# Altium integrated library Analog Devices RF IF Prescalers (Microwave).IntLib: 6 symbols
Pins are listed as number, name and electrical type; pins without a type are passive.

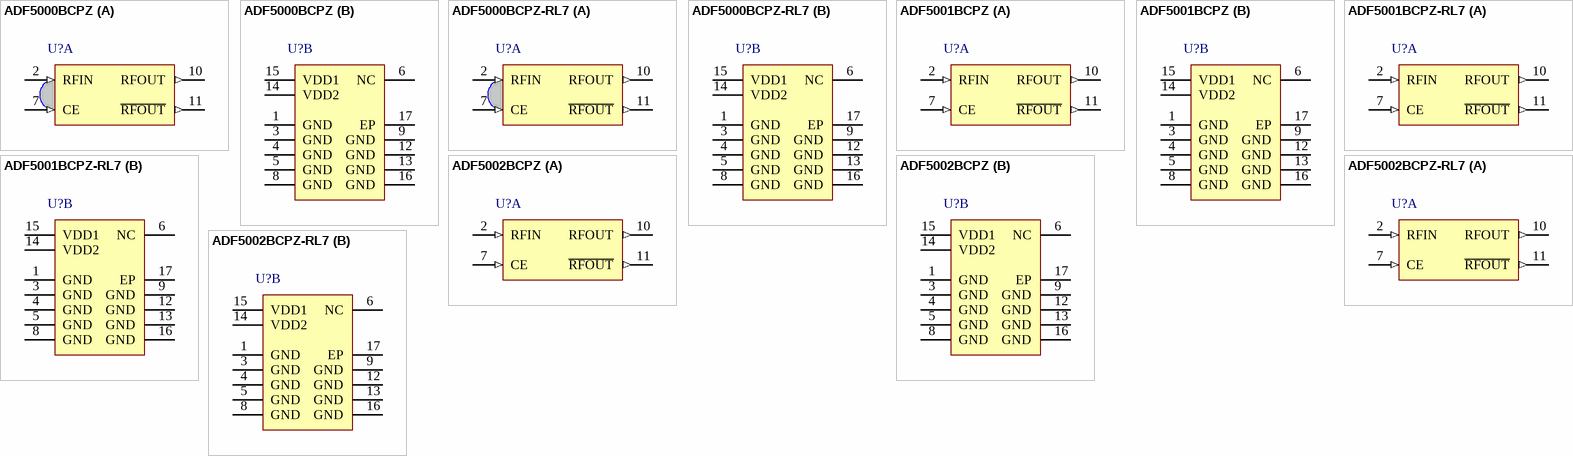
[diagram p0: symbols ADF5000BCPZ to ADF5002BCPZ-RL7]

## ADF5000BCPZ
designator U?
4 GHz to 18 GHz Divide-by-2 Prescaler, -147dBc, CP-16-18, Pb-Free, 714 Tray; Max RF Input (MHz): 18GHz; RF Divide Value: 2; Voltage Supply (V): 3.3V; Supply Current: 30mA; DatasheetVersion: Rev0; PackageVersion: 043008-A; PackageReference: CP-16-18; PackageDescription: 16-Lead Lead Frame Chip Scale Package [LFCSP_WQ]; Norm Phase Noise (dBc/Hz): -147dBc; ComponentLink1Description: Manufacturer URL; ComponentLink1URL: www.analog.com; ComponentLink2Description: Datasheet; ComponentLink2URL: http://www.analog.com/static/imported-files/data_sheets/ADF5000.pdf; ComponentLink3Description: Package Specification; ComponentLink3URL: http://www.analog.com/static/imported-files/packages/PKG_PDF/LFCSP(CP)/CP-16/CP_16_18.pdf
footprint ADI-CP-16-18_N (QFN, 16-Leads, Body 3x3mm, Pitch 0.5mm, Thermal Pad 1.6x1.6mm, IPC Medium Density)
footprint ADI-CP-16-18_L (QFN, 16-Leads, Body 3x3mm, Pitch 0.5mm, Thermal Pad 1.6x1.6mm, IPC High Density)
footprint ADI-CP-16-18_M (QFN, 16-Leads, Body 3x3mm, Pitch 0.5mm, Thermal Pad 1.6x1.6mm, IPC Low Density)
part A pins: 2 RFIN (in) "Single-Ended 50 ohm Input to the RF Prescaler. This pin is ac-coupled internally via a 3 pF capacitor.", 7 CE (in) "Chip Enable. This pin is active high. When CE is brought low, the part enters power-down mode. If this functionality is not required, the pin can be left unconnected because it is pulled up internally through a weak pull-up resistor.", 10 RFOUT (out) "Divided-Down Output of the Prescaler. This pin has an internal 100 ohm load resistor tied to VDD2 and an ac coupling capacitor of 1 pF.", 11 ~{RFOUT} (out) "Complementary Divided Down Output of the Prescaler. This pin has an internal 100 ohm load resistor tied to VDD2 and an ac coupling capacitor of 1 pF."
part B pins: 1 GND (power) "RF Ground. Tie all ground pins together.", 3 GND (power) "RF Ground. Tie all ground pins together.", 4 GND (power) "RF Ground. Tie all ground pins together.", 5 GND (power) "RF Ground. Tie all ground pins together.", 6 NC "No Connect. Do not connect to this pin.", 8 GND (power) "RF Ground. Tie all ground pins together.", 9 GND (power) "RF Ground. Tie all ground pins together.", 12 GND (power) "RF Ground. Tie all ground pins together.", 13 GND (power) "RF Ground. Tie all ground pins together.", 14 VDD2 (power) "Voltage Supply for the Output Stage. Decouple this pin to ground with a 0.1 uF capacitor in parallel with a 10 pF capacitor. VDD2 can be tied directly to VDD1.", 15 VDD1 (power) "Voltage Supply for the Input Stage and Divider Block. Decouple this pin to ground with a 0.1 uF capacitor in parallel with a 10 pF capacitor.", 16 GND (power) "RF Ground. Tie all ground pins together.", 17 EP (power) "The LFCSP has an exposed paddle that must be connected to GND."

## ADF5000BCPZ-RL7
designator U?
4 GHz to 18 GHz Divide-by-2 Prescaler, -147dBc, CP-16-18, Pb-Free, 1500 Reel; Max RF Input (MHz): 18GHz; RF Divide Value: 2; Voltage Supply (V): 3.3V; Supply Current: 30mA; DatasheetVersion: Rev0; PackageVersion: 043008-A; PackageReference: CP-16-18; PackageDescription: 16-Lead Lead Frame Chip Scale Package [LFCSP_WQ]; Norm Phase Noise (dBc/Hz): -147dBc; ComponentLink1Description: Manufacturer URL; ComponentLink1URL: www.analog.com; ComponentLink2Description: Datasheet; ComponentLink2URL: http://www.analog.com/static/imported-files/data_sheets/ADF5000.pdf; ComponentLink3Description: Package Specification; ComponentLink3URL: http://www.analog.com/static/imported-files/packages/PKG_PDF/LFCSP(CP)/CP-16/CP_16_18.pdf
footprint ADI-CP-16-18_N (QFN, 16-Leads, Body 3x3mm, Pitch 0.5mm, Thermal Pad 1.6x1.6mm, IPC Medium Density)
footprint ADI-CP-16-18_L (QFN, 16-Leads, Body 3x3mm, Pitch 0.5mm, Thermal Pad 1.6x1.6mm, IPC High Density)
footprint ADI-CP-16-18_M (QFN, 16-Leads, Body 3x3mm, Pitch 0.5mm, Thermal Pad 1.6x1.6mm, IPC Low Density)
part A pins: 2 RFIN (in) "Single-Ended 50 ohm Input to the RF Prescaler. This pin is ac-coupled internally via a 3 pF capacitor.", 7 CE (in) "Chip Enable. This pin is active high. When CE is brought low, the part enters power-down mode. If this functionality is not required, the pin can be left unconnected because it is pulled up internally through a weak pull-up resistor.", 10 RFOUT (out) "Divided-Down Output of the Prescaler. This pin has an internal 100 ohm load resistor tied to VDD2 and an ac coupling capacitor of 1 pF.", 11 ~{RFOUT} (out) "Complementary Divided Down Output of the Prescaler. This pin has an internal 100 ohm load resistor tied to VDD2 and an ac coupling capacitor of 1 pF."
part B pins: 1 GND (power) "RF Ground. Tie all ground pins together.", 3 GND (power) "RF Ground. Tie all ground pins together.", 4 GND (power) "RF Ground. Tie all ground pins together.", 5 GND (power) "RF Ground. Tie all ground pins together.", 6 NC "No Connect. Do not connect to this pin.", 8 GND (power) "RF Ground. Tie all ground pins together.", 9 GND (power) "RF Ground. Tie all ground pins together.", 12 GND (power) "RF Ground. Tie all ground pins together.", 13 GND (power) "RF Ground. Tie all ground pins together.", 14 VDD2 (power) "Voltage Supply for the Output Stage. Decouple this pin to ground with a 0.1 uF capacitor in parallel with a 10 pF capacitor. VDD2 can be tied directly to VDD1.", 15 VDD1 (power) "Voltage Supply for the Input Stage and Divider Block. Decouple this pin to ground with a 0.1 uF capacitor in parallel with a 10 pF capacitor.", 16 GND (power) "RF Ground. Tie all ground pins together.", 17 EP (power) "The LFCSP has an exposed paddle that must be connected to GND."

## ADF5001BCPZ
designator U?
4 GHz to 18 GHz Divide-by-4 Prescaler, -150dBc, CP-16-18, Pb-Free, 714 Tray; Max RF Input (MHz): 18GHz; RF Divide Value: 4; Voltage Supply (V): 3.3V; Supply Current: 30mA; DatasheetVersion: RevA; PackageVersion: 043008-A; PackageReference: CP-16-18; PackageDescription: 16-Lead Lead Frame Chip Scale Package [LFCSP_WQ]; Norm Phase Noise (dBc/Hz): -150dBc; ComponentLink1Description: Manufacturer URL; ComponentLink1URL: www.analog.com; ComponentLink2Description: Datasheet; ComponentLink2URL: http://www.analog.com/static/imported-files/data_sheets/ADF5001.pdf; ComponentLink3Description: Package Specification; ComponentLink3URL: http://www.analog.com/static/imported-files/packages/PKG_PDF/LFCSP(CP)/CP-16/CP_16_18.pdf
footprint ADI-CP-16-18_N (QFN, 16-Leads, Body 3x3mm, Pitch 0.5mm, Thermal Pad 1.6x1.6mm, IPC Medium Density)
footprint ADI-CP-16-18_L (QFN, 16-Leads, Body 3x3mm, Pitch 0.5mm, Thermal Pad 1.6x1.6mm, IPC High Density)
footprint ADI-CP-16-18_M (QFN, 16-Leads, Body 3x3mm, Pitch 0.5mm, Thermal Pad 1.6x1.6mm, IPC Low Density)
part A pins: 2 RFIN (in) "Single-Ended 50 ohm Input to the RF Prescaler. This pin is ac-coupled internally via a 3 pF capacitor.", 7 CE (in) "Chip Enable. This pin is active high. When CE is brought low, the part enters into power-down mode. If this functionality is not required, the pin can remain unconnected because it is pulled up internally through a weak pull-up resistor.", 10 RFOUT (out) "Divided Down Output of the Prescaler. This pin has an internal 100 ohm load resistor tied to VDD2 and an ac-coupling capacitor of 1 pF.", 11 ~{RFOUT} (out) "Complementary Divided Down Output of the Prescaler. This pin has an internal 100 ohm load resistor tied to VDD2 and an ac-coupling capacitor of 1 pF."
part B pins: 1 GND (power) "RF Ground. All ground pins should be tied together.", 3 GND (power) "RF Ground. All ground pins should be tied together.", 4 GND (power) "RF Ground. All ground pins should be tied together.", 5 GND (power) "RF Ground. All ground pins should be tied together.", 6 NC "No Connect. This pin can be left unconnected.", 8 GND (power) "RF Ground. All ground pins should be tied together.", 9 GND (power) "RF Ground. All ground pins should be tied together.", 12 GND (power) "RF Ground. All ground pins should be tied together.", 13 GND (power) "RF Ground. All ground pins should be tied together.", 14 VDD2 (power) "Voltage Supply for the Output Stage. Decouple this pin to ground with a 1 nF capacitor and tie it directly to VDD1.", 15 VDD1 (power) "Voltage Supply for the Input Stage and Divider Block. Decouple this pin to ground with a 1 nF capacitor.", 16 GND (power) "RF Ground. All ground pins should be tied together.", 17 EP (power) "The LFCSP package has an exposed paddle that must be connected to GND."

## ADF5001BCPZ-RL7
designator U?
4 GHz to 18 GHz Divide-by-4 Prescaler, -150dBc, CP-16-18, Pb-Free, 1500 Reel; Max RF Input (MHz): 18GHz; RF Divide Value: 4; Voltage Supply (V): 3.3V; Supply Current: 30mA; DatasheetVersion: RevA; PackageVersion: 043008-A; PackageReference: CP-16-18; PackageDescription: 16-Lead Lead Frame Chip Scale Package [LFCSP_WQ]; Norm Phase Noise (dBc/Hz): -150dBc; ComponentLink1Description: Manufacturer URL; ComponentLink1URL: www.analog.com; ComponentLink2Description: Datasheet; ComponentLink2URL: http://www.analog.com/static/imported-files/data_sheets/ADF5001.pdf; ComponentLink3Description: Package Specification; ComponentLink3URL: http://www.analog.com/static/imported-files/packages/PKG_PDF/LFCSP(CP)/CP-16/CP_16_18.pdf
footprint ADI-CP-16-18_N (QFN, 16-Leads, Body 3x3mm, Pitch 0.5mm, Thermal Pad 1.6x1.6mm, IPC Medium Density)
footprint ADI-CP-16-18_L (QFN, 16-Leads, Body 3x3mm, Pitch 0.5mm, Thermal Pad 1.6x1.6mm, IPC High Density)
footprint ADI-CP-16-18_M (QFN, 16-Leads, Body 3x3mm, Pitch 0.5mm, Thermal Pad 1.6x1.6mm, IPC Low Density)
part A pins: 2 RFIN (in) "Single-Ended 50 ohm Input to the RF Prescaler. This pin is ac-coupled internally via a 3 pF capacitor.", 7 CE (in) "Chip Enable. This pin is active high. When CE is brought low, the part enters into power-down mode. If this functionality is not required, the pin can remain unconnected because it is pulled up internally through a weak pull-up resistor.", 10 RFOUT (out) "Divided Down Output of the Prescaler. This pin has an internal 100 ohm load resistor tied to VDD2 and an ac-coupling capacitor of 1 pF.", 11 ~{RFOUT} (out) "Complementary Divided Down Output of the Prescaler. This pin has an internal 100 ohm load resistor tied to VDD2 and an ac-coupling capacitor of 1 pF."
part B pins: 1 GND (power) "RF Ground. All ground pins should be tied together.", 3 GND (power) "RF Ground. All ground pins should be tied together.", 4 GND (power) "RF Ground. All ground pins should be tied together.", 5 GND (power) "RF Ground. All ground pins should be tied together.", 6 NC "No Connect. This pin can be left unconnected.", 8 GND (power) "RF Ground. All ground pins should be tied together.", 9 GND (power) "RF Ground. All ground pins should be tied together.", 12 GND (power) "RF Ground. All ground pins should be tied together.", 13 GND (power) "RF Ground. All ground pins should be tied together.", 14 VDD2 (power) "Voltage Supply for the Output Stage. Decouple this pin to ground with a 1 nF capacitor and tie it directly to VDD1.", 15 VDD1 (power) "Voltage Supply for the Input Stage and Divider Block. Decouple this pin to ground with a 1 nF capacitor.", 16 GND (power) "RF Ground. All ground pins should be tied together.", 17 EP (power) "The LFCSP package has an exposed paddle that must be connected to GND."

## ADF5002BCPZ
designator U?
4 GHz to 18 GHz Divide-by-8 Prescaler, -153dBc, CP-16-18, Pb-Free, 714 Tray; Max RF Input (MHz): 18GHz; RF Divide Value: 8; Voltage Supply (V): 3.3V; Supply Current: 30mA; DatasheetVersion: Rev0; PackageVersion: 043008-A; PackageReference: CP-16-18; PackageDescription: 16-Lead Lead Frame Chip Scale Package [LFCSP_WQ]; Norm Phase Noise (dBc/Hz): -153dBc; ComponentLink1Description: Manufacturer URL; ComponentLink1URL: www.analog.com; ComponentLink2Description: Datasheet; ComponentLink2URL: http://www.analog.com/static/imported-files/data_sheets/ADF5002.pdf; ComponentLink3Description: Package Specification; ComponentLink3URL: http://www.analog.com/static/imported-files/packages/PKG_PDF/LFCSP(CP)/CP-16/CP_16_18.pdf
footprint ADI-CP-16-18_N (QFN, 16-Leads, Body 3x3mm, Pitch 0.5mm, Thermal Pad 1.6x1.6mm, IPC Medium Density)
footprint ADI-CP-16-18_L (QFN, 16-Leads, Body 3x3mm, Pitch 0.5mm, Thermal Pad 1.6x1.6mm, IPC High Density)
footprint ADI-CP-16-18_M (QFN, 16-Leads, Body 3x3mm, Pitch 0.5mm, Thermal Pad 1.6x1.6mm, IPC Low Density)
part A pins: 2 RFIN (in) "Single-Ended 50 ohm Input to the RF Prescaler. This pin is ac-coupled internally via a 3 pF capacitor.", 7 CE (in) "Chip Enable. This pin is active high. When CE is brought low, the part enters power-down mode. If this functionality is not required, the pin can be left unconnected because it is pulled up internally through a weak pull-up resistor.", 10 RFOUT (out) "Divided-Down Output of the Prescaler. This pin has an internal 100 ohm load resistor tied to VDD2 and an ac-coupling capacitor of 1 pF.", 11 ~{RFOUT} (out) "Complementary Divided-Down Output of the Prescaler. This pin has an internal 100 ohm load resistor tied to VDD2 and an ac-coupling capacitor of 1 pF."
part B pins: 1 GND (power) "RF Ground. All ground pins should be tied together.", 3 GND (power) "RF Ground. All ground pins should be tied together.", 4 GND (power) "RF Ground. All ground pins should be tied together.", 5 GND (power) "RF Ground. All ground pins should be tied together.", 6 NC "No Connect. This pin can be left unconnected.", 8 GND (power) "RF Ground. All ground pins should be tied together.", 9 GND (power) "RF Ground. All ground pins should be tied together.", 12 GND (power) "RF Ground. All ground pins should be tied together.", 13 GND (power) "RF Ground. All ground pins should be tied together.", 14 VDD2 (power) "Voltage Supply for the Output Stage. This pin should be decoupled to ground with a 0.1 uF capacitor in parallel with a 10 pF capacitor and can be tied directly to VDD1.", 15 VDD1 (power) "Voltage Supply for the Input Stage and Divider Block. This pin should be decoupled to ground with a 0.1 uF capacitor in parallel with a 10 pF capacitor.", 16 GND (power) "RF Ground. All ground pins should be tied together.", 17 EP (power) "The LFCSP has an exposed paddle that must be connected to GND."

## ADF5002BCPZ-RL7
designator U?
4 GHz to 18 GHz Divide-by-8 Prescaler, -153dBc, CP-16-18, Pb-Free, 1500 Reel; Max RF Input (MHz): 18GHz; RF Divide Value: 8; Voltage Supply (V): 3.3V; Supply Current: 30mA; DatasheetVersion: Rev0; PackageVersion: 043008-A; PackageReference: CP-16-18; PackageDescription: 16-Lead Lead Frame Chip Scale Package [LFCSP_WQ]; Norm Phase Noise (dBc/Hz): -153dBc; ComponentLink1Description: Manufacturer URL; ComponentLink1URL: www.analog.com; ComponentLink2Description: Datasheet; ComponentLink2URL: http://www.analog.com/static/imported-files/data_sheets/ADF5002.pdf; ComponentLink3Description: Package Specification; ComponentLink3URL: http://www.analog.com/static/imported-files/packages/PKG_PDF/LFCSP(CP)/CP-16/CP_16_18.pdf
footprint ADI-CP-16-18_N (QFN, 16-Leads, Body 3x3mm, Pitch 0.5mm, Thermal Pad 1.6x1.6mm, IPC Medium Density)
footprint ADI-CP-16-18_L (QFN, 16-Leads, Body 3x3mm, Pitch 0.5mm, Thermal Pad 1.6x1.6mm, IPC High Density)
footprint ADI-CP-16-18_M (QFN, 16-Leads, Body 3x3mm, Pitch 0.5mm, Thermal Pad 1.6x1.6mm, IPC Low Density)
part A pins: 2 RFIN (in) "Single-Ended 50 ohm Input to the RF Prescaler. This pin is ac-coupled internally via a 3 pF capacitor.", 7 CE (in) "Chip Enable. This pin is active high. When CE is brought low, the part enters power-down mode. If this functionality is not required, the pin can be left unconnected because it is pulled up internally through a weak pull-up resistor.", 10 RFOUT (out) "Divided-Down Output of the Prescaler. This pin has an internal 100 ohm load resistor tied to VDD2 and an ac-coupling capacitor of 1 pF.", 11 ~{RFOUT} (out) "Complementary Divided-Down Output of the Prescaler. This pin has an internal 100 ohm load resistor tied to VDD2 and an ac-coupling capacitor of 1 pF."
part B pins: 1 GND (power) "RF Ground. All ground pins should be tied together.", 3 GND (power) "RF Ground. All ground pins should be tied together.", 4 GND (power) "RF Ground. All ground pins should be tied together.", 5 GND (power) "RF Ground. All ground pins should be tied together.", 6 NC "No Connect. This pin can be left unconnected.", 8 GND (power) "RF Ground. All ground pins should be tied together.", 9 GND (power) "RF Ground. All ground pins should be tied together.", 12 GND (power) "RF Ground. All ground pins should be tied together.", 13 GND (power) "RF Ground. All ground pins should be tied together.", 14 VDD2 (power) "Voltage Supply for the Output Stage. This pin should be decoupled to ground with a 0.1 uF capacitor in parallel with a 10 pF capacitor and can be tied directly to VDD1.", 15 VDD1 (power) "Voltage Supply for the Input Stage and Divider Block. This pin should be decoupled to ground with a 0.1 uF capacitor in parallel with a 10 pF capacitor.", 16 GND (power) "RF Ground. All ground pins should be tied together.", 17 EP (power) "The LFCSP has an exposed paddle that must be connected to GND."